# EAGLE library part HEADER_1X6_FTDI (library pixhawk2)
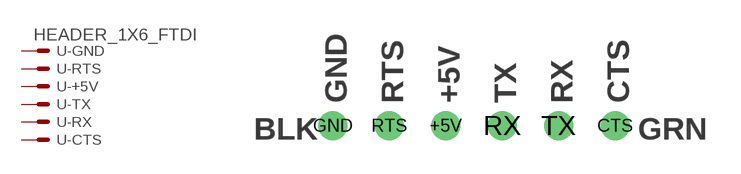
[diagram p46: symbol with the pads of HEADER_1X06-FTDI; footprint HEADER_1X06-FTDI]

Designator prefix -; gates -GND=MV -RTS=M -+5V=M -TX=M -RX=M -CTS=M

## HEADER_1X6_FTDI  [HEADER_1X06-FTDI]
+5V  -+5V:S  pas
CTS  -CTS:S  pas
GND  -GND:S  pas
RTS  -RTS:S  pas
RX  -RX:S  pas
TX  -TX:S  pas

## Footprint HEADER_1X06-FTDI (pad centres in mm)
drill 0.8 round: +5V -1.27,0; CTS 6.35,0; GND -6.35,0; RTS -3.81,0; RX 1.27,0; TX 3.81,0